# Altium schematic symbol library SDMMC.SchLib: 1 symbol
Pins are listed as number, name and electrical type; pins without a type are passive.

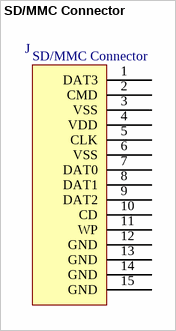
[diagram p0: symbol SD/MMC Connector]

## SD/MMC Connector
designator J  value SD/MMC Connector  (hidden comment: *)
Digikey Code: 101-00708-64-ND
footprint 101-00708 (SD/MMC Connector)
pins: 1 DAT3, 2 CMD, 3 VSS, 4 VDD, 5 CLK, 6 VSS, 7 DAT0, 8 DAT1, 9 DAT2, 10 CD, 11 WP, 12 GND, 13 GND, 14 GND, 15 GND